# Altium integrated library Microchip Power Management Battery Management.IntLib: 224 symbols (part 2 of 7)
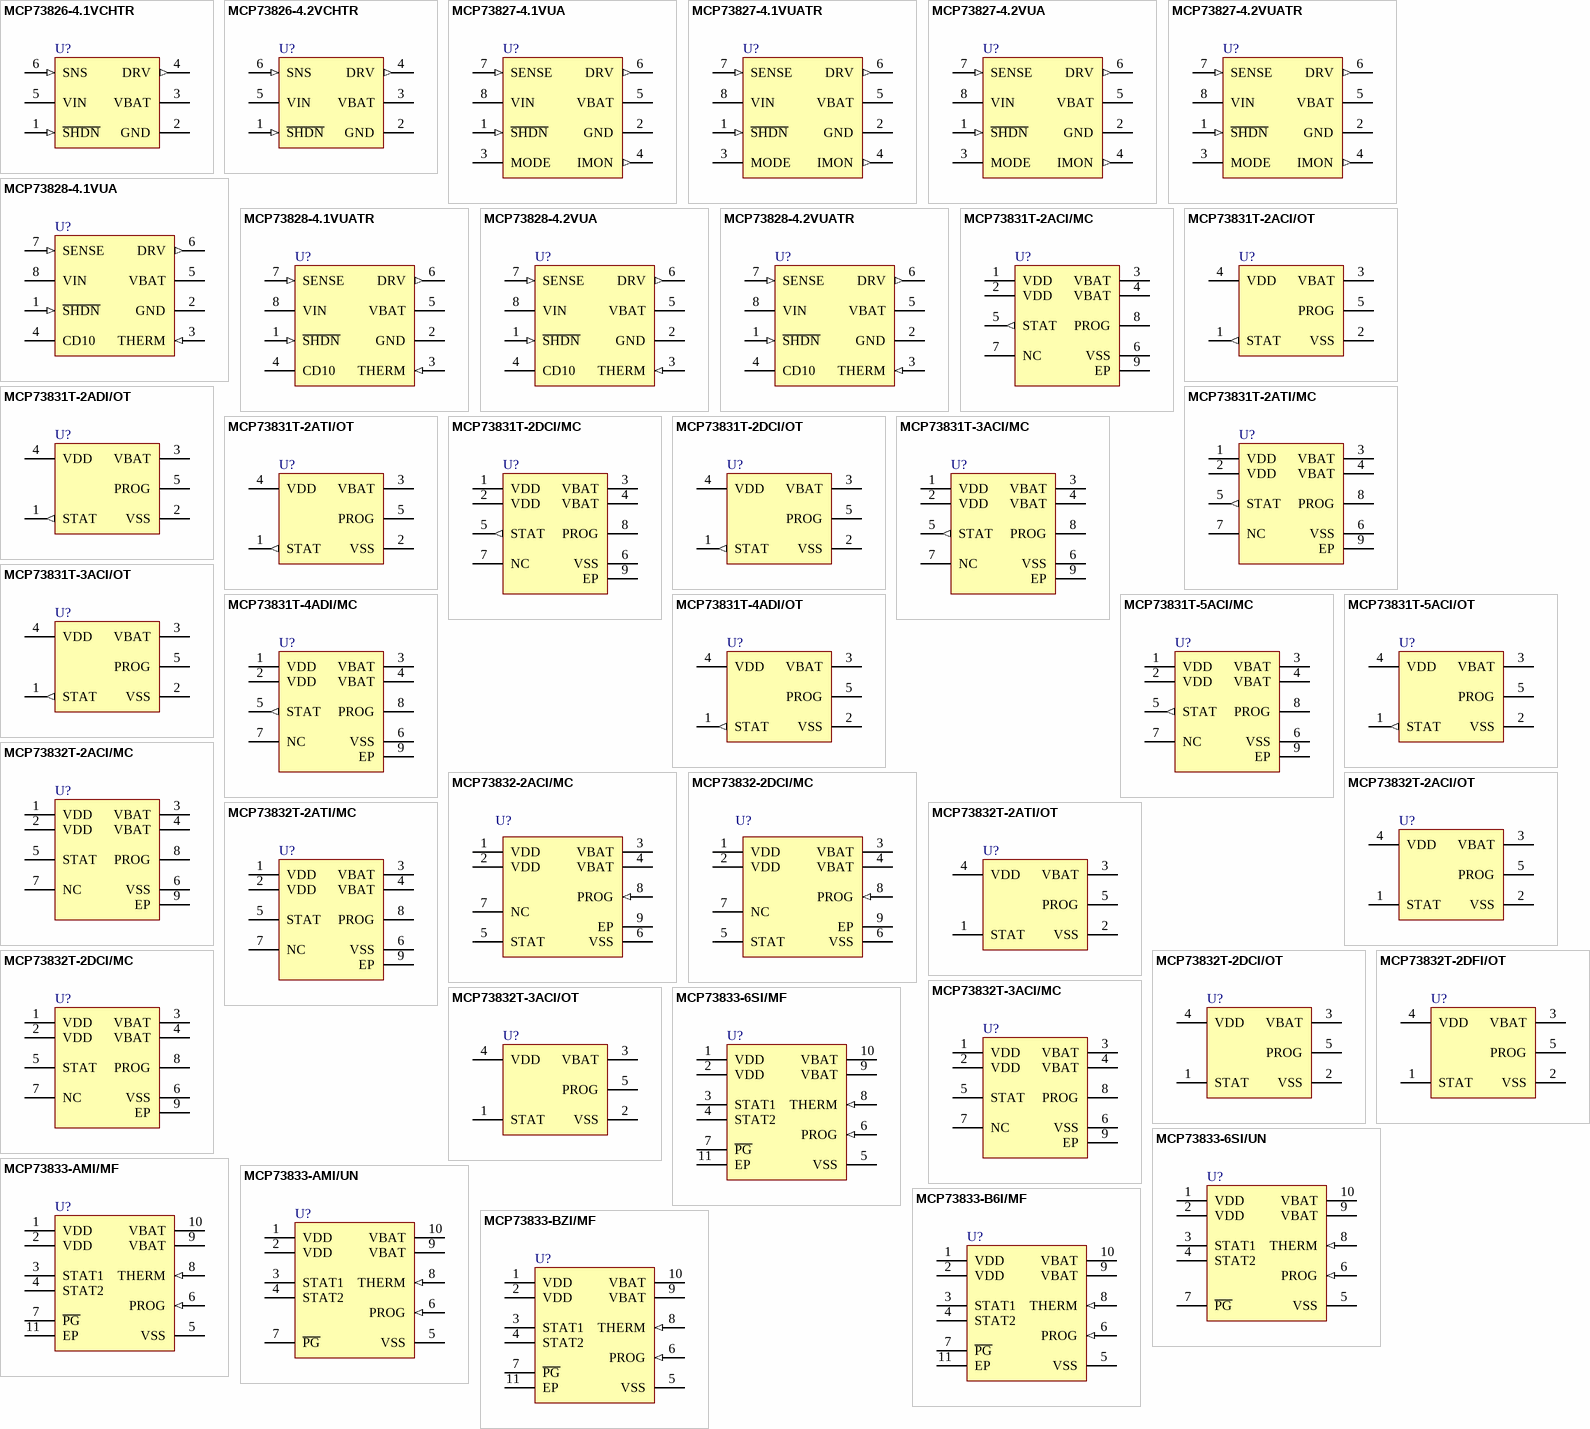
[diagram p7: symbols MCP73826-4.1VCHTR to MCP73833-BZI/MF]

## MCP73826-4.2VCHTR
designator U?
Single Cell Li-Ion Charge Management Controller, 4.2V, 6-Pin SOT-23, Industrial Temperature, Tape and Reel; Manufacturer: Microchip; PartNumber: MCP73826-4.2VCHTR; DatasheetVersion: revA, Feb-2003; PackageVersion: revBB, Aug-2009; PackageReference: SOT-23-CH6; PackageDescription: 6-Lead Plastic Small Outline Transistor (CH) [SOT-23]; Supplier 1: Digi-Key; Supplier Part Number 1: MCP73826-4.2VCHTR-ND; Supplier 2: Digi-Key; Supplier Part Number 2: MCP73826-4.2VCHCT-ND; Supplier 3: Digi-Key; Supplier Part Number 3: MCP73826-4.2VCHDKR-ND; Supplier 4: Farnell; Supplier Part Number 4: 1084313; Supplier 5: Farnell; Supplier Part Number 5: 1084313RL; Supplier 6: Newark; Supplier Part Number 6: 97K4498; Supplier 7: Mouser; Supplier Part Number 7: 579-MCP738264.2VCHTR; Mounting Technology: Surface Mount; Code_IPC: SOT26A-6; ComponentLink1Description: Manufacturer URL; ComponentLink1URL: http://www.microchip.com/; ComponentLink2Description: Datasheet; ComponentLink2URL: http://ww1.microchip.com/downloads/en/DeviceDoc/21705a.pdf; ComponentLink3Description: Package Specification; ComponentLink3URL: http://www.microchip.com/stellent/groups/techpub_sg/documents/packagingspec/en012702.pdf
footprint SOT-23-CH6_N (SOT23, 6-Leads, Body 2.9x1.6mm, Pitch 0.95mm, Lead Span 2.7mm, IPC Medium Density)
footprint SOT-23-CH6_L (SOT23, 6-Leads, Body 2.9x1.6mm, Pitch 0.95mm, Lead Span 2.7mm, IPC High Density)
footprint SOT-23-CH6_M (SOT23, 6-Leads, Body 2.9x1.6mm, Pitch 0.95mm, Lead Span 2.7mm, IPC Low Density)
pins: 1 ~{SHDN} (in), 2 GND (power), 3 VBAT (power), 4 DRV (out), 5 VIN (power), 6 SNS (in)

## MCP73827-4.1VUA
designator U?
Single Cell Li-Ion Charge Management Controller with Mode Indicator & Charge Current Monitor, 4.1V, 8-Pin MSOP, Industrial Temperature; Manufacturer: Microchip; PartNumber: MCP73827-4.1VUA; DatasheetVersion: revB, Feb-2007; PackageVersion: revBB, Aug-2009; PackageReference: MSOP-UA8; PackageDescription: 8-Lead Plastic Micro Small Outline Package (UA) [MSOP]; Supplier 1: Digi-Key; Supplier Part Number 1: MCP73827-4.1VUA-ND; Supplier 2: Mouser; Supplier Part Number 2: 579-MCP73827-4.1VUA; Mounting Technology: Surface Mount; Code_JEDEC: MO-187-AA; ComponentLink1Description: Manufacturer URL; ComponentLink1URL: http://www.microchip.com/; ComponentLink2Description: Datasheet; ComponentLink2URL: http://ww1.microchip.com/downloads/en/DeviceDoc/21704B.pdf; ComponentLink3Description: Package Specification; ComponentLink3URL: http://www.microchip.com/stellent/groups/techpub_sg/documents/packagingspec/en012702.pdf
footprint MSOP-UA8_N (TSOP, 8-Leads, Body 3x3mm, Pitch 0.65mm, IPC Medium Density)
footprint MSOP-UA8_L (TSOP, 8-Leads, Body 3x3mm, Pitch 0.65mm, IPC High Density)
footprint MSOP-UA8_M (TSOP, 8-Leads, Body 3x3mm, Pitch 0.65mm, IPC Low Density)
pins: 1 ~{SHDN} (in), 2 GND (power), 3 MODE (oc), 4 IMON (out), 5 VBAT (power), 6 DRV (out), 7 SENSE (in), 8 VIN (power)

## MCP73827-4.1VUATR
designator U?
Single Cell Li-Ion Charge Management Controller with Mode Indicator & Charge Current Monitor, 4.1V, 8-Pin MSOP, Industrial Temperature, Tape and Reel; Manufacturer: Microchip; PartNumber: MCP73827-4.1VUATR; DatasheetVersion: revB, Feb-2007; PackageVersion: revBB, Aug-2009; PackageReference: MSOP-UA8; PackageDescription: 8-Lead Plastic Micro Small Outline Package (UA) [MSOP]; Supplier 1: Digi-Key; Supplier Part Number 1: MCP73827-4.1VUATR-ND; Supplier 2: Mouser; Supplier Part Number 2: 579-MCP738274.1VUATR; Mounting Technology: Surface Mount; Code_JEDEC: MO-187-AA; ComponentLink1Description: Manufacturer URL; ComponentLink1URL: http://www.microchip.com/; ComponentLink2Description: Datasheet; ComponentLink2URL: http://ww1.microchip.com/downloads/en/DeviceDoc/21704B.pdf; ComponentLink3Description: Package Specification; ComponentLink3URL: http://www.microchip.com/stellent/groups/techpub_sg/documents/packagingspec/en012702.pdf
footprint MSOP-UA8_N (TSOP, 8-Leads, Body 3x3mm, Pitch 0.65mm, IPC Medium Density)
footprint MSOP-UA8_L (TSOP, 8-Leads, Body 3x3mm, Pitch 0.65mm, IPC High Density)
footprint MSOP-UA8_M (TSOP, 8-Leads, Body 3x3mm, Pitch 0.65mm, IPC Low Density)
pins: 1 ~{SHDN} (in), 2 GND (power), 3 MODE (oc), 4 IMON (out), 5 VBAT (power), 6 DRV (out), 7 SENSE (in), 8 VIN (power)

## MCP73827-4.2VUA
designator U?
Single Cell Li-Ion Charge Management Controller with Mode Indicator & Charge Current Monitor, 4.2V, 8-Pin MSOP, Industrial Temperature; Manufacturer: Microchip; PartNumber: MCP73827-4.2VUA; DatasheetVersion: revB, Feb-2007; PackageVersion: revBB, Aug-2009; PackageReference: MSOP-UA8; PackageDescription: 8-Lead Plastic Micro Small Outline Package (UA) [MSOP]; Supplier 1: Digi-Key; Supplier Part Number 1: MCP73827-4.2VUA-ND; Supplier 2: Farnell; Supplier Part Number 2: 1852161; Supplier 3: Newark; Supplier Part Number 3: 72C4281; Supplier 4: Mouser; Supplier Part Number 4: 579-MCP73827-4.2VUA; Mounting Technology: Surface Mount; Code_JEDEC: MO-187-AA; ComponentLink1Description: Manufacturer URL; ComponentLink1URL: http://www.microchip.com/; ComponentLink2Description: Datasheet; ComponentLink2URL: http://ww1.microchip.com/downloads/en/DeviceDoc/21704B.pdf; ComponentLink3Description: Package Specification; ComponentLink3URL: http://www.microchip.com/stellent/groups/techpub_sg/documents/packagingspec/en012702.pdf
footprint MSOP-UA8_N (TSOP, 8-Leads, Body 3x3mm, Pitch 0.65mm, IPC Medium Density)
footprint MSOP-UA8_L (TSOP, 8-Leads, Body 3x3mm, Pitch 0.65mm, IPC High Density)
footprint MSOP-UA8_M (TSOP, 8-Leads, Body 3x3mm, Pitch 0.65mm, IPC Low Density)
pins: 1 ~{SHDN} (in), 2 GND (power), 3 MODE (oc), 4 IMON (out), 5 VBAT (power), 6 DRV (out), 7 SENSE (in), 8 VIN (power)

## MCP73827-4.2VUATR
designator U?
Single Cell Li-Ion Charge Management Controller with Mode Indicator & Charge Current Monitor, 4.2V, 8-Pin MSOP, Industrial Temperature, Tape and Reel; Manufacturer: Microchip; PartNumber: MCP73827-4.2VUATR; DatasheetVersion: revB, Feb-2007; PackageVersion: revBB, Aug-2009; PackageReference: MSOP-UA8; PackageDescription: 8-Lead Plastic Micro Small Outline Package (UA) [MSOP]; Supplier 1: Digi-Key; Supplier Part Number 1: MCP73827-4.2VUATR-ND; Supplier 2: Mouser; Supplier Part Number 2: 579-MCP738274.2VUATR; Mounting Technology: Surface Mount; Code_JEDEC: MO-187-AA; ComponentLink1Description: Manufacturer URL; ComponentLink1URL: http://www.microchip.com/; ComponentLink2Description: Datasheet; ComponentLink2URL: http://ww1.microchip.com/downloads/en/DeviceDoc/21704B.pdf; ComponentLink3Description: Package Specification; ComponentLink3URL: http://www.microchip.com/stellent/groups/techpub_sg/documents/packagingspec/en012702.pdf
footprint MSOP-UA8_N (TSOP, 8-Leads, Body 3x3mm, Pitch 0.65mm, IPC Medium Density)
footprint MSOP-UA8_L (TSOP, 8-Leads, Body 3x3mm, Pitch 0.65mm, IPC High Density)
footprint MSOP-UA8_M (TSOP, 8-Leads, Body 3x3mm, Pitch 0.65mm, IPC Low Density)
pins: 1 ~{SHDN} (in), 2 GND (power), 3 MODE (oc), 4 IMON (out), 5 VBAT (power), 6 DRV (out), 7 SENSE (in), 8 VIN (power)

## MCP73828-4.1VUA
designator U?
Single Cell Li-Ion Charge Management Controller with Charge Indicator & Temperature Monitor, 4.1V, 8-Pin MSOP, Industrial Temperature; Manufacturer: Microchip; PartNumber: MCP73828-4.1VUA; DatasheetVersion: revA, Mar-2002; PackageVersion: revBB, Aug-2009; PackageReference: MSOP-UA8; PackageDescription: 8-Lead Plastic Micro Small Outline Package (UA) [MSOP]; Supplier 1: Digi-Key; Supplier Part Number 1: MCP73828-4.1VUA-ND; Supplier 2: Mouser; Supplier Part Number 2: 579-MCP73828-4.1VUA; Mounting Technology: Surface Mount; Code_JEDEC: MO-187-AA; ComponentLink1Description: Manufacturer URL; ComponentLink1URL: http://www.microchip.com/; ComponentLink2Description: Datasheet; ComponentLink2URL: http://ww1.microchip.com/downloads/en/DeviceDoc/21706a_en.pdf; ComponentLink3Description: Package Specification; ComponentLink3URL: http://www.microchip.com/stellent/groups/techpub_sg/documents/packagingspec/en012702.pdf
footprint MSOP-UA8_N (TSOP, 8-Leads, Body 3x3mm, Pitch 0.65mm, IPC Medium Density)
footprint MSOP-UA8_L (TSOP, 8-Leads, Body 3x3mm, Pitch 0.65mm, IPC High Density)
footprint MSOP-UA8_M (TSOP, 8-Leads, Body 3x3mm, Pitch 0.65mm, IPC Low Density)
pins: 1 ~{SHDN} (in), 2 GND (power), 3 THERM (in), 4 CD10 (oc), 5 VBAT (power), 6 DRV (out), 7 SENSE (in), 8 VIN (power)

## MCP73828-4.1VUATR
designator U?
Single Cell Li-Ion Charge Management Controller with Charge Indicator & Temperature Monitor, 4.1V, 8-Pin MSOP, Industrial Temperature, Tape and Reel; Manufacturer: Microchip; PartNumber: MCP73828-4.1VUATR; DatasheetVersion: revA, Mar-2002; PackageVersion: revBB, Aug-2009; PackageReference: MSOP-UA8; PackageDescription: 8-Lead Plastic Micro Small Outline Package (UA) [MSOP]; Supplier 1: Digi-Key; Supplier Part Number 1: MCP73828-4.1VUATR-ND; Supplier 2: Mouser; Supplier Part Number 2: 579-MCP738284.1VUATR; Mounting Technology: Surface Mount; Code_JEDEC: MO-187-AA; ComponentLink1Description: Manufacturer URL; ComponentLink1URL: http://www.microchip.com/; ComponentLink2Description: Datasheet; ComponentLink2URL: http://ww1.microchip.com/downloads/en/DeviceDoc/21706a_en.pdf; ComponentLink3Description: Package Specification; ComponentLink3URL: http://www.microchip.com/stellent/groups/techpub_sg/documents/packagingspec/en012702.pdf
footprint MSOP-UA8_N (TSOP, 8-Leads, Body 3x3mm, Pitch 0.65mm, IPC Medium Density)
footprint MSOP-UA8_L (TSOP, 8-Leads, Body 3x3mm, Pitch 0.65mm, IPC High Density)
footprint MSOP-UA8_M (TSOP, 8-Leads, Body 3x3mm, Pitch 0.65mm, IPC Low Density)
pins: 1 ~{SHDN} (in), 2 GND (power), 3 THERM (in), 4 CD10 (oc), 5 VBAT (power), 6 DRV (out), 7 SENSE (in), 8 VIN (power)

## MCP73828-4.2VUA
designator U?
Single Cell Li-Ion Charge Management Controller with Charge Indicator & Temperature Monitor, 4.2V, 8-Pin MSOP, Industrial Temperature; Manufacturer: Microchip; PartNumber: MCP73828-4.2VUA; DatasheetVersion: revA, Mar-2002; PackageVersion: revBB, Aug-2009; PackageReference: MSOP-UA8; PackageDescription: 8-Lead Plastic Micro Small Outline Package (UA) [MSOP]; Supplier 1: Digi-Key; Supplier Part Number 1: MCP73828-4.2VUA-ND; Supplier 2: Mouser; Supplier Part Number 2: 579-MCP73828-4.2VUA; Mounting Technology: Surface Mount; Code_JEDEC: MO-187-AA; ComponentLink1Description: Manufacturer URL; ComponentLink1URL: http://www.microchip.com/; ComponentLink2Description: Datasheet; ComponentLink2URL: http://ww1.microchip.com/downloads/en/DeviceDoc/21706a_en.pdf; ComponentLink3Description: Package Specification; ComponentLink3URL: http://www.microchip.com/stellent/groups/techpub_sg/documents/packagingspec/en012702.pdf
footprint MSOP-UA8_N (TSOP, 8-Leads, Body 3x3mm, Pitch 0.65mm, IPC Medium Density)
footprint MSOP-UA8_L (TSOP, 8-Leads, Body 3x3mm, Pitch 0.65mm, IPC High Density)
footprint MSOP-UA8_M (TSOP, 8-Leads, Body 3x3mm, Pitch 0.65mm, IPC Low Density)
pins: 1 ~{SHDN} (in), 2 GND (power), 3 THERM (in), 4 CD10 (oc), 5 VBAT (power), 6 DRV (out), 7 SENSE (in), 8 VIN (power)

## MCP73828-4.2VUATR
designator U?
Single Cell Li-Ion Charge Management Controller with Charge Indicator & Temperature Monitor, 4.2V, 8-Pin MSOP, Industrial Temperature, Tape and Reel; Manufacturer: Microchip; PartNumber: MCP73828-4.2VUATR; DatasheetVersion: revA, Mar-2002; PackageVersion: revBB, Aug-2009; PackageReference: MSOP-UA8; PackageDescription: 8-Lead Plastic Micro Small Outline Package (UA) [MSOP]; Supplier 1: Digi-Key; Supplier Part Number 1: MCP73828-4.2VUATR-ND; Supplier 2: Mouser; Supplier Part Number 2: 579-MCP738284.2VUATR; Mounting Technology: Surface Mount; Code_JEDEC: MO-187-AA; ComponentLink1Description: Manufacturer URL; ComponentLink1URL: http://www.microchip.com/; ComponentLink2Description: Datasheet; ComponentLink2URL: http://ww1.microchip.com/downloads/en/DeviceDoc/21706a_en.pdf; ComponentLink3Description: Package Specification; ComponentLink3URL: http://www.microchip.com/stellent/groups/techpub_sg/documents/packagingspec/en012702.pdf
footprint MSOP-UA8_N (TSOP, 8-Leads, Body 3x3mm, Pitch 0.65mm, IPC Medium Density)
footprint MSOP-UA8_L (TSOP, 8-Leads, Body 3x3mm, Pitch 0.65mm, IPC High Density)
footprint MSOP-UA8_M (TSOP, 8-Leads, Body 3x3mm, Pitch 0.65mm, IPC Low Density)
pins: 1 ~{SHDN} (in), 2 GND (power), 3 THERM (in), 4 CD10 (oc), 5 VBAT (power), 6 DRV (out), 7 SENSE (in), 8 VIN (power)

## MCP73831T-2ACI/MC
designator U?
Miniature Single-Cell, Fully Integrated Li-Ion, Li-Polymer Charge Management Controller, 4.2V, 8-Pin DFN, Industrial Temperature, Tape and Reel; Manufacturer: Microchip; PartNumber: MCP73831T-2ACI/MC; DatasheetVersion: revE, Sep-2008; PackageVersion: revBB, Aug-2009; PackageReference: DFN-MC8; PackageDescription: 8-Lead Plastic Dual Flat, No Lead Package (MC) - 2x3x0.9mm Body [DFN]; Supplier 1: Digi-Key; Supplier Part Number 1: MCP73831T-2ACI/MC-ND; Supplier 2: Mouser; Supplier Part Number 2: 579-MCP73831T-2ACIMC; Mounting Technology: Surface Mount; ComponentLink1Description: Manufacturer URL; ComponentLink1URL: http://www.microchip.com/; ComponentLink2Description: Datasheet; ComponentLink2URL: http://ww1.microchip.com/downloads/en/DeviceDoc/21984e.pdf; ComponentLink3Description: Package Specification; ComponentLink3URL: http://www.microchip.com/stellent/groups/techpub_sg/documents/packagingspec/en012702.pdf
footprint DFN-MC8 (SON, 8-Leads, Body 2x3mm, Pitch 0.5mm, Microchip Recommended)
pins: 1 VDD (power), 2 VDD (power), 3 VBAT (power), 4 VBAT (power), 5 STAT (out), 6 VSS (power), 7 NC, 8 PROG, 9 EP (power)

## MCP73831T-2ACI/OT
designator U?
Miniature Single-Cell, Fully Integrated Li-Ion, Li-Polymer Charge Management Controller, 4.2V, 5-Pin SOT-23, Industrial Temperature, Tape and Reel; Manufacturer: Microchip; PartNumber: MCP73831T-2ACI/OT; DatasheetVersion: revE, Sep-2008; PackageVersion: revBB, Aug-2009; PackageReference: SOT-23-OT5; PackageDescription: 5-Lead Plastic Small Outline Transistor (OT) [SOT-23]; Supplier 1: Digi-Key; Supplier Part Number 1: MCP73831T-2ACI/OTTR-ND; Supplier 2: Digi-Key; Supplier Part Number 2: MCP73831T-2ACI/OTCT-ND; Supplier 3: Digi-Key; Supplier Part Number 3: MCP73831T-2ACI/OTDKR-ND; Supplier 4: Farnell; Supplier Part Number 4: 1332158; Supplier 5: Farnell; Supplier Part Number 5: 1332158RL; Supplier 6: Newark; Supplier Part Number 6: 56K7045; Supplier 7: Mouser; Supplier Part Number 7: 579-MCP73831T-2ACIOT; Mounting Technology: Surface Mount; Code_IPC: SOT23-5; ComponentLink1Description: Manufacturer URL; ComponentLink1URL: http://www.microchip.com/; ComponentLink2Description: Datasheet; ComponentLink2URL: http://ww1.microchip.com/downloads/en/DeviceDoc/21984e.pdf; ComponentLink3Description: Package Specification; ComponentLink3URL: http://www.microchip.com/stellent/groups/techpub_sg/documents/packagingspec/en012702.pdf
footprint SOT-23-OT5_N (SOT23, 5-Leads, Body 2.9x1.6mm, Pitch 0.95mm, Lead Span 2.7mm, IPC Medium Density)
footprint SOT-23-OT5_L (SOT23, 5-Leads, Body 2.9x1.6mm, Pitch 0.95mm, Lead Span 2.7mm, IPC High Density)
footprint SOT-23-OT5_M (SOT23, 5-Leads, Body 2.9x1.6mm, Pitch 0.95mm, Lead Span 2.7mm, IPC Low Density)
pins: 1 STAT (out), 2 VSS (power), 3 VBAT (power), 4 VDD (power), 5 PROG

## MCP73831T-2ADI/OT
designator U?
Miniature Single-Cell, Fully Integrated Li-Ion, Li-Polymer Charge Management Controller, 4.2V, 5-Pin SOT-23, Industrial Temperature, Tape and Reel; Manufacturer: Microchip; PartNumber: MCP73831T-2ADI/OT; DatasheetVersion: revE, Sep-2008; PackageVersion: revBB, Aug-2009; PackageReference: SOT-23-OT5; PackageDescription: 5-Lead Plastic Small Outline Transistor (OT) [SOT-23]; Mounting Technology: Surface Mount; Code_IPC: SOT23-5; ComponentLink1Description: Manufacturer URL; ComponentLink1URL: http://www.microchip.com/; ComponentLink2Description: Datasheet; ComponentLink2URL: http://ww1.microchip.com/downloads/en/DeviceDoc/21984e.pdf; ComponentLink3Description: Package Specification; ComponentLink3URL: http://www.microchip.com/stellent/groups/techpub_sg/documents/packagingspec/en012702.pdf
footprint SOT-23-OT5_N (SOT23, 5-Leads, Body 2.9x1.6mm, Pitch 0.95mm, Lead Span 2.7mm, IPC Medium Density)
footprint SOT-23-OT5_L (SOT23, 5-Leads, Body 2.9x1.6mm, Pitch 0.95mm, Lead Span 2.7mm, IPC High Density)
footprint SOT-23-OT5_M (SOT23, 5-Leads, Body 2.9x1.6mm, Pitch 0.95mm, Lead Span 2.7mm, IPC Low Density)
pins: 1 STAT (out), 2 VSS (power), 3 VBAT (power), 4 VDD (power), 5 PROG

## MCP73831T-2ATI/MC
designator U?
Miniature Single-Cell, Fully Integrated Li-Ion, Li-Polymer Charge Management Controller, 4.2V, 8-Pin DFN, Industrial Temperature, Tape and Reel; Manufacturer: Microchip; PartNumber: MCP73831T-2ATI/MC; DatasheetVersion: revE, Sep-2008; PackageVersion: revBB, Aug-2009; PackageReference: DFN-MC8; PackageDescription: 8-Lead Plastic Dual Flat, No Lead Package (MC) - 2x3x0.9mm Body [DFN]; Supplier 1: Digi-Key; Supplier Part Number 1: MCP73831T-2ATI/MC-ND; Supplier 2: Mouser; Supplier Part Number 2: 579-MCP73831T-2ATIMC; Mounting Technology: Surface Mount; ComponentLink1Description: Manufacturer URL; ComponentLink1URL: http://www.microchip.com/; ComponentLink2Description: Datasheet; ComponentLink2URL: http://ww1.microchip.com/downloads/en/DeviceDoc/21984e.pdf; ComponentLink3Description: Package Specification; ComponentLink3URL: http://www.microchip.com/stellent/groups/techpub_sg/documents/packagingspec/en012702.pdf
footprint DFN-MC8 (SON, 8-Leads, Body 2x3mm, Pitch 0.5mm, Microchip Recommended)
pins: 1 VDD (power), 2 VDD (power), 3 VBAT (power), 4 VBAT (power), 5 STAT (out), 6 VSS (power), 7 NC, 8 PROG, 9 EP (power)

## MCP73831T-2ATI/OT
designator U?
Miniature Single-Cell, Fully Integrated Li-Ion, Li-Polymer Charge Management Controller, 4.2V, 5-Pin SOT-23, Industrial Temperature, Tape and Reel; Manufacturer: Microchip; PartNumber: MCP73831T-2ATI/OT; DatasheetVersion: revE, Sep-2008; PackageVersion: revBB, Aug-2009; PackageReference: SOT-23-OT5; PackageDescription: 5-Lead Plastic Small Outline Transistor (OT) [SOT-23]; Supplier 1: Digi-Key; Supplier Part Number 1: MCP73831T-2ATI/OTTR-ND; Supplier 2: Digi-Key; Supplier Part Number 2: MCP73831T-2ATI/OTCT-ND; Supplier 3: Digi-Key; Supplier Part Number 3: MCP73831T-2ATI/OTDKR-ND; Supplier 4: Farnell; Supplier Part Number 4: 1834890RL; Supplier 5: Farnell; Supplier Part Number 5: 1834890; Supplier 6: Newark; Supplier Part Number 6: 84R5196; Supplier 7: Mouser; Supplier Part Number 7: 579-MCP73831T-2ATIOT; Mounting Technology: Surface Mount; Code_IPC: SOT23-5; ComponentLink1Description: Manufacturer URL; ComponentLink1URL: http://www.microchip.com/; ComponentLink2Description: Datasheet; ComponentLink2URL: http://ww1.microchip.com/downloads/en/DeviceDoc/21984e.pdf; ComponentLink3Description: Package Specification; ComponentLink3URL: http://www.microchip.com/stellent/groups/techpub_sg/documents/packagingspec/en012702.pdf
footprint SOT-23-OT5_N (SOT23, 5-Leads, Body 2.9x1.6mm, Pitch 0.95mm, Lead Span 2.7mm, IPC Medium Density)
footprint SOT-23-OT5_L (SOT23, 5-Leads, Body 2.9x1.6mm, Pitch 0.95mm, Lead Span 2.7mm, IPC High Density)
footprint SOT-23-OT5_M (SOT23, 5-Leads, Body 2.9x1.6mm, Pitch 0.95mm, Lead Span 2.7mm, IPC Low Density)
pins: 1 STAT (out), 2 VSS (power), 3 VBAT (power), 4 VDD (power), 5 PROG

## MCP73831T-2DCI/MC
designator U?
Miniature Single-Cell, Fully Integrated Li-Ion, Li-Polymer Charge Management Controller, 4.2V, 8-Pin DFN, Industrial Temperature, Tape and Reel; Manufacturer: Microchip; PartNumber: MCP73831T-2DCI/MC; DatasheetVersion: revE, Sep-2008; PackageVersion: revBB, Aug-2009; PackageReference: DFN-MC8; PackageDescription: 8-Lead Plastic Dual Flat, No Lead Package (MC) - 2x3x0.9mm Body [DFN]; Supplier 1: Digi-Key; Supplier Part Number 1: MCP73831T-2DCI/MC-ND; Supplier 2: Mouser; Supplier Part Number 2: 579-MCP73831T-2DCIMC; Mounting Technology: Surface Mount; ComponentLink1Description: Manufacturer URL; ComponentLink1URL: http://www.microchip.com/; ComponentLink2Description: Datasheet; ComponentLink2URL: http://ww1.microchip.com/downloads/en/DeviceDoc/21984e.pdf; ComponentLink3Description: Package Specification; ComponentLink3URL: http://www.microchip.com/stellent/groups/techpub_sg/documents/packagingspec/en012702.pdf
footprint DFN-MC8 (SON, 8-Leads, Body 2x3mm, Pitch 0.5mm, Microchip Recommended)
pins: 1 VDD (power), 2 VDD (power), 3 VBAT (power), 4 VBAT (power), 5 STAT (out), 6 VSS (power), 7 NC, 8 PROG, 9 EP (power)

## MCP73831T-2DCI/OT
designator U?
Miniature Single-Cell, Fully Integrated Li-Ion, Li-Polymer Charge Management Controller, 4.2V, 5-Pin SOT-23, Industrial Temperature, Tape and Reel; Manufacturer: Microchip; PartNumber: MCP73831T-2DCI/OT; DatasheetVersion: revE, Sep-2008; PackageVersion: revBB, Aug-2009; PackageReference: SOT-23-OT5; PackageDescription: 5-Lead Plastic Small Outline Transistor (OT) [SOT-23]; Supplier 1: Digi-Key; Supplier Part Number 1: MCP73831T-2DCI/OTTR-ND; Supplier 2: Digi-Key; Supplier Part Number 2: MCP73831T-2DCI/OTCT-ND; Supplier 3: Digi-Key; Supplier Part Number 3: MCP73831T-2DCI/OTDKR-ND; Supplier 4: Farnell; Supplier Part Number 4: 1840935; Supplier 5: Newark; Supplier Part Number 5: 84R6271; Supplier 6: Mouser; Supplier Part Number 6: 579-MCP73831T-2DCIOT; Mounting Technology: Surface Mount; Code_IPC: SOT23-5; ComponentLink1Description: Manufacturer URL; ComponentLink1URL: http://www.microchip.com/; ComponentLink2Description: Datasheet; ComponentLink2URL: http://ww1.microchip.com/downloads/en/DeviceDoc/21984e.pdf; ComponentLink3Description: Package Specification; ComponentLink3URL: http://www.microchip.com/stellent/groups/techpub_sg/documents/packagingspec/en012702.pdf
footprint SOT-23-OT5_N (SOT23, 5-Leads, Body 2.9x1.6mm, Pitch 0.95mm, Lead Span 2.7mm, IPC Medium Density)
footprint SOT-23-OT5_L (SOT23, 5-Leads, Body 2.9x1.6mm, Pitch 0.95mm, Lead Span 2.7mm, IPC High Density)
footprint SOT-23-OT5_M (SOT23, 5-Leads, Body 2.9x1.6mm, Pitch 0.95mm, Lead Span 2.7mm, IPC Low Density)
pins: 1 STAT (out), 2 VSS (power), 3 VBAT (power), 4 VDD (power), 5 PROG

## MCP73831T-3ACI/MC
designator U?
Miniature Single-Cell, Fully Integrated Li-Ion, Li-Polymer Charge Management Controller, 4.35V, 8-Pin DFN, Industrial Temperature, Tape and Reel; Manufacturer: Microchip; PartNumber: MCP73831T-3ACI/MC; DatasheetVersion: revE, Sep-2008; PackageVersion: revBB, Aug-2009; PackageReference: DFN-MC8; PackageDescription: 8-Lead Plastic Dual Flat, No Lead Package (MC) - 2x3x0.9mm Body [DFN]; Supplier 1: Digi-Key; Supplier Part Number 1: MCP73831T-3ACI/MC-ND; Supplier 2: Mouser; Supplier Part Number 2: 579-MCP73831T-3ACIMC; Mounting Technology: Surface Mount; ComponentLink1Description: Manufacturer URL; ComponentLink1URL: http://www.microchip.com/; ComponentLink2Description: Datasheet; ComponentLink2URL: http://ww1.microchip.com/downloads/en/DeviceDoc/21984e.pdf; ComponentLink3Description: Package Specification; ComponentLink3URL: http://www.microchip.com/stellent/groups/techpub_sg/documents/packagingspec/en012702.pdf
footprint DFN-MC8 (SON, 8-Leads, Body 2x3mm, Pitch 0.5mm, Microchip Recommended)
pins: 1 VDD (power), 2 VDD (power), 3 VBAT (power), 4 VBAT (power), 5 STAT (out), 6 VSS (power), 7 NC, 8 PROG, 9 EP (power)

## MCP73831T-3ACI/OT
designator U?
Miniature Single-Cell, Fully Integrated Li-Ion, Li-Polymer Charge Management Controller, 4.35V, 5-Pin SOT-23, Industrial Temperature, Tape and Reel; Manufacturer: Microchip; PartNumber: MCP73831T-3ACI/OT; DatasheetVersion: revE, Sep-2008; PackageVersion: revBB, Aug-2009; PackageReference: SOT-23-OT5; PackageDescription: 5-Lead Plastic Small Outline Transistor (OT) [SOT-23]; Supplier 1: Digi-Key; Supplier Part Number 1: MCP73831T-3ACI/OT-ND; Supplier 2: Mouser; Supplier Part Number 2: 579-MCP73831T-3ACIOT; Mounting Technology: Surface Mount; Code_IPC: SOT23-5; ComponentLink1Description: Manufacturer URL; ComponentLink1URL: http://www.microchip.com/; ComponentLink2Description: Datasheet; ComponentLink2URL: http://ww1.microchip.com/downloads/en/DeviceDoc/21984e.pdf; ComponentLink3Description: Package Specification; ComponentLink3URL: http://www.microchip.com/stellent/groups/techpub_sg/documents/packagingspec/en012702.pdf
footprint SOT-23-OT5_N (SOT23, 5-Leads, Body 2.9x1.6mm, Pitch 0.95mm, Lead Span 2.7mm, IPC Medium Density)
footprint SOT-23-OT5_L (SOT23, 5-Leads, Body 2.9x1.6mm, Pitch 0.95mm, Lead Span 2.7mm, IPC High Density)
footprint SOT-23-OT5_M (SOT23, 5-Leads, Body 2.9x1.6mm, Pitch 0.95mm, Lead Span 2.7mm, IPC Low Density)
pins: 1 STAT (out), 2 VSS (power), 3 VBAT (power), 4 VDD (power), 5 PROG

## MCP73831T-4ADI/MC
designator U?
Miniature Single-Cell, Fully Integrated Li-Ion, Li-Polymer Charge Management Controller, 4.4V, 8-Pin DFN, Industrial Temperature, Tape and Reel; Manufacturer: Microchip; PartNumber: MCP73831T-4ADI/MC; DatasheetVersion: revE, Sep-2008; PackageVersion: revBB, Aug-2009; PackageReference: DFN-MC8; PackageDescription: 8-Lead Plastic Dual Flat, No Lead Package (MC) - 2x3x0.9mm Body [DFN]; Supplier 1: Digi-Key; Supplier Part Number 1: MCP73831T-4ADI/MC-ND; Supplier 2: Mouser; Supplier Part Number 2: 579-MCP73831T4ADIMC; Mounting Technology: Surface Mount; ComponentLink1Description: Manufacturer URL; ComponentLink1URL: http://www.microchip.com/; ComponentLink2Description: Datasheet; ComponentLink2URL: http://ww1.microchip.com/downloads/en/DeviceDoc/21984e.pdf; ComponentLink3Description: Package Specification; ComponentLink3URL: http://www.microchip.com/stellent/groups/techpub_sg/documents/packagingspec/en012702.pdf
footprint DFN-MC8 (SON, 8-Leads, Body 2x3mm, Pitch 0.5mm, Microchip Recommended)
pins: 1 VDD (power), 2 VDD (power), 3 VBAT (power), 4 VBAT (power), 5 STAT (out), 6 VSS (power), 7 NC, 8 PROG, 9 EP (power)

## MCP73831T-4ADI/OT
designator U?
Miniature Single-Cell, Fully Integrated Li-Ion, Li-Polymer Charge Management Controller, 4.4V, 5-Pin SOT-23, Industrial Temperature, Tape and Reel; Manufacturer: Microchip; PartNumber: MCP73831T-4ADI/OT; DatasheetVersion: revE, Sep-2008; PackageVersion: revBB, Aug-2009; PackageReference: SOT-23-OT5; PackageDescription: 5-Lead Plastic Small Outline Transistor (OT) [SOT-23]; Supplier 1: Digi-Key; Supplier Part Number 1: MCP73831T-4ADI/OT-ND; Supplier 2: Mouser; Supplier Part Number 2: 579-MCP73831T4ADIOT; Mounting Technology: Surface Mount; Code_IPC: SOT23-5; ComponentLink1Description: Manufacturer URL; ComponentLink1URL: http://www.microchip.com/; ComponentLink2Description: Datasheet; ComponentLink2URL: http://ww1.microchip.com/downloads/en/DeviceDoc/21984e.pdf; ComponentLink3Description: Package Specification; ComponentLink3URL: http://www.microchip.com/stellent/groups/techpub_sg/documents/packagingspec/en012702.pdf
footprint SOT-23-OT5_N (SOT23, 5-Leads, Body 2.9x1.6mm, Pitch 0.95mm, Lead Span 2.7mm, IPC Medium Density)
footprint SOT-23-OT5_L (SOT23, 5-Leads, Body 2.9x1.6mm, Pitch 0.95mm, Lead Span 2.7mm, IPC High Density)
footprint SOT-23-OT5_M (SOT23, 5-Leads, Body 2.9x1.6mm, Pitch 0.95mm, Lead Span 2.7mm, IPC Low Density)
pins: 1 STAT (out), 2 VSS (power), 3 VBAT (power), 4 VDD (power), 5 PROG

## MCP73831T-5ACI/MC
designator U?
Miniature Single-Cell, Fully Integrated Li-Ion, Li-Polymer Charge Management Controller, 4.5V, 8-Pin DFN, Industrial Temperature, Tape and Reel; Manufacturer: Microchip; PartNumber: MCP73831T-5ACI/MC; DatasheetVersion: revE, Sep-2008; PackageVersion: revBB, Aug-2009; PackageReference: DFN-MC8; PackageDescription: 8-Lead Plastic Dual Flat, No Lead Package (MC) - 2x3x0.9mm Body [DFN]; Supplier 1: Digi-Key; Supplier Part Number 1: MCP73831T-5ACI/MC-ND; Supplier 2: Mouser; Supplier Part Number 2: 579-MCP73831T5ACIMC; Mounting Technology: Surface Mount; ComponentLink1Description: Manufacturer URL; ComponentLink1URL: http://www.microchip.com/; ComponentLink2Description: Datasheet; ComponentLink2URL: http://ww1.microchip.com/downloads/en/DeviceDoc/21984e.pdf; ComponentLink3Description: Package Specification; ComponentLink3URL: http://www.microchip.com/stellent/groups/techpub_sg/documents/packagingspec/en012702.pdf
footprint DFN-MC8 (SON, 8-Leads, Body 2x3mm, Pitch 0.5mm, Microchip Recommended)
pins: 1 VDD (power), 2 VDD (power), 3 VBAT (power), 4 VBAT (power), 5 STAT (out), 6 VSS (power), 7 NC, 8 PROG, 9 EP (power)

## MCP73831T-5ACI/OT
designator U?
Miniature Single-Cell, Fully Integrated Li-Ion, Li-Polymer Charge Management Controller, 4.5V, 5-Pin SOT-23, Industrial Temperature, Tape and Reel; Manufacturer: Microchip; PartNumber: MCP73831T-5ACI/OT; DatasheetVersion: revE, Sep-2008; PackageVersion: revBB, Aug-2009; PackageReference: SOT-23-OT5; PackageDescription: 5-Lead Plastic Small Outline Transistor (OT) [SOT-23]; Supplier 1: Digi-Key; Supplier Part Number 1: MCP73831T-5ACI/OT-ND; Supplier 2: Mouser; Supplier Part Number 2: 579-MCP73831T5ACIOT; Mounting Technology: Surface Mount; Code_IPC: SOT23-5; ComponentLink1Description: Manufacturer URL; ComponentLink1URL: http://www.microchip.com/; ComponentLink2Description: Datasheet; ComponentLink2URL: http://ww1.microchip.com/downloads/en/DeviceDoc/21984e.pdf; ComponentLink3Description: Package Specification; ComponentLink3URL: http://www.microchip.com/stellent/groups/techpub_sg/documents/packagingspec/en012702.pdf
footprint SOT-23-OT5_N (SOT23, 5-Leads, Body 2.9x1.6mm, Pitch 0.95mm, Lead Span 2.7mm, IPC Medium Density)
footprint SOT-23-OT5_L (SOT23, 5-Leads, Body 2.9x1.6mm, Pitch 0.95mm, Lead Span 2.7mm, IPC High Density)
footprint SOT-23-OT5_M (SOT23, 5-Leads, Body 2.9x1.6mm, Pitch 0.95mm, Lead Span 2.7mm, IPC Low Density)
pins: 1 STAT (out), 2 VSS (power), 3 VBAT (power), 4 VDD (power), 5 PROG

## MCP73832-2ACI/MC
designator U?
Miniature Single-Cell, Fully Integrated Li-Ion, Li-Polymer Charge Management Controller, 0.75% Voltage Regulation Accuracy, 3.75 to 6.0 V Vcc, -40 to 85 degC, 8-pin DFN (MC8), Tube; Manufacturer: Microchip; PartNumber: MCP73832-2ACI/MC; DatasheetVersion: Rev. E; PackageVersion: C04-123C; PackageReference: DFN-MC8; PackageDescription: 8-Lead Plastic Dual Flat, 2 x 3 mm Body, 0.5 mm Pitch; Supplier 1: Digi-Key; Supplier Part Number 1: MCP73832-2ACI/MC-ND; Supplier 2: Newark; Supplier Part Number 2: 77M3058; Supplier 3: Mouser; Supplier Part Number 3: 579-MCP73832-2ACI/MC; Mounting Technology: Surface Mount; ComponentLink1Description: Manufacturer URL; ComponentLink1URL: http://www.microchip.com; ComponentLink2Description: Datasheet; ComponentLink2URL: http://ww1.microchip.com/downloads/en/DeviceDoc/21984e.pdf; ComponentLink3Description: Package Specification; ComponentLink3URL: http://www.microchip.com/stellent/groups/techpub_sg/documents/packagingspec/en012702.pdf; ComponentLink4Description: Product URL; ComponentLink4URL: http://www.microchip.com/MCP73832
footprint MCHP-DFN-MC8_V (SON, 8-Leads, Body 3x2mm, Pitch 0.5mm, Thermal Pad 1.45x1.75mm)
pins: 1 VDD (power) "Battery Management Input Supply", 2 VDD (power) "Battery Management Input Supply", 3 VBAT (power) "Battery Charge Control Output", 4 VBAT (power) "Battery Charge Control Output", 5 STAT (hiz) "Charge Status Output", 6 VSS (power) "Battery Management 0V Reference", 7 NC "No Connection", 8 PROG (in) "Current Regulation Set and Charge Control Enable", 9 EP (power) "Exposed Thermal Pad (EP); must be connected to VSS."

## MCP73832-2DCI/MC
designator U?
Miniature Single-Cell, Fully Integrated Li-Ion, Li-Polymer Charge Management Controller, 0.75% Voltage Regulation Accuracy, 3.75 to 6.0 V Vcc, -40 to 85 degC, 8-pin DFN (MC8), Tube; Manufacturer: Microchip; PartNumber: MCP73832-2DCI/MC; DatasheetVersion: Rev. E; PackageVersion: C04-123C; PackageReference: DFN-MC8; PackageDescription: 8-Lead Plastic Dual Flat, 2 x 3 mm Body, 0.5 mm Pitch; Supplier 1: Digi-Key; Supplier Part Number 1: MCP73832-2DCI/MC-ND; Supplier 2: Mouser; Supplier Part Number 2: 579-MCP73832-2DCI/MC; Mounting Technology: Surface Mount; ComponentLink1Description: Manufacturer URL; ComponentLink1URL: http://www.microchip.com; ComponentLink2Description: Datasheet; ComponentLink2URL: http://ww1.microchip.com/downloads/en/DeviceDoc/21984e.pdf; ComponentLink3Description: Package Specification; ComponentLink3URL: http://www.microchip.com/stellent/groups/techpub_sg/documents/packagingspec/en012702.pdf; ComponentLink4Description: Product URL; ComponentLink4URL: http://www.microchip.com/MCP73832
footprint MCHP-DFN-MC8_V (SON, 8-Leads, Body 3x2mm, Pitch 0.5mm, Thermal Pad 1.45x1.75mm)
pins: 1 VDD (power) "Battery Management Input Supply", 2 VDD (power) "Battery Management Input Supply", 3 VBAT (power) "Battery Charge Control Output", 4 VBAT (power) "Battery Charge Control Output", 5 STAT (hiz) "Charge Status Output", 6 VSS (power) "Battery Management 0V Reference", 7 NC "No Connection", 8 PROG (in) "Current Regulation Set and Charge Control Enable", 9 EP (power) "Exposed Thermal Pad (EP); must be connected to VSS."

## MCP73832T-2ACI/MC
designator U?
Miniature Single-Cell, Fully Integrated Li-Ion, Li-Polymer Charge Management Controller, 4.2V, 8-Pin DFN, Industrial Temperature, Tape and Reel; Manufacturer: Microchip; PartNumber: MCP73832T-2ACI/MC; DatasheetVersion: revE, Sep-2008; PackageVersion: revBB, Aug-2009; PackageReference: DFN-MC8; PackageDescription: 8-Lead Plastic Dual Flat, No Lead Package (MC) - 2x3x0.9mm Body [DFN]; Supplier 1: Digi-Key; Supplier Part Number 1: MCP73832T-2ACI/MC-ND; Supplier 2: Newark; Supplier Part Number 2: 88K5655; Supplier 3: Mouser; Supplier Part Number 3: 579-MCP73832T-2ACIMC; Mounting Technology: Surface Mount; ComponentLink1Description: Manufacturer URL; ComponentLink1URL: http://www.microchip.com/; ComponentLink2Description: Datasheet; ComponentLink2URL: http://ww1.microchip.com/downloads/en/DeviceDoc/21984e.pdf; ComponentLink3Description: Package Specification; ComponentLink3URL: http://www.microchip.com/stellent/groups/techpub_sg/documents/packagingspec/en012702.pdf
footprint DFN-MC8 (SON, 8-Leads, Body 2x3mm, Pitch 0.5mm, Microchip Recommended)
pins: 1 VDD (power), 2 VDD (power), 3 VBAT (power), 4 VBAT (power), 5 STAT (oc), 6 VSS (power), 7 NC, 8 PROG, 9 EP (power)

## MCP73832T-2ACI/OT
designator U?
Miniature Single-Cell, Fully Integrated Li-Ion, Li-Polymer Charge Management Controller, 4.2V, 5-Pin SOT-23, Industrial Temperature, Tape and Reel; Manufacturer: Microchip; PartNumber: MCP73832T-2ACI/OT; DatasheetVersion: revE, Sep-2008; PackageVersion: revBB, Aug-2009; PackageReference: SOT-23-OT5; PackageDescription: 5-Lead Plastic Small Outline Transistor (OT) [SOT-23]; Supplier 1: Digi-Key; Supplier Part Number 1: MCP73832T-2ACI/OTTR-ND; Supplier 2: Digi-Key; Supplier Part Number 2: MCP73832T-2ACI/OTCT-ND; Supplier 3: Digi-Key; Supplier Part Number 3: MCP73832T-2ACI/OTDKR-ND; Supplier 4: Farnell; Supplier Part Number 4: 1332159RL; Supplier 5: Farnell; Supplier Part Number 5: 1332159; Supplier 6: Newark; Supplier Part Number 6: 88K5656; Supplier 7: Mouser; Supplier Part Number 7: 579-MCP73832T-2ACIOT; Mounting Technology: Surface Mount; Code_IPC: SOT23-5; ComponentLink1Description: Manufacturer URL; ComponentLink1URL: http://www.microchip.com/; ComponentLink2Description: Datasheet; ComponentLink2URL: http://ww1.microchip.com/downloads/en/DeviceDoc/21984e.pdf; ComponentLink3Description: Package Specification; ComponentLink3URL: http://www.microchip.com/stellent/groups/techpub_sg/documents/packagingspec/en012702.pdf
footprint SOT-23-OT5_N (SOT23, 5-Leads, Body 2.9x1.6mm, Pitch 0.95mm, Lead Span 2.7mm, IPC Medium Density)
footprint SOT-23-OT5_L (SOT23, 5-Leads, Body 2.9x1.6mm, Pitch 0.95mm, Lead Span 2.7mm, IPC High Density)
footprint SOT-23-OT5_M (SOT23, 5-Leads, Body 2.9x1.6mm, Pitch 0.95mm, Lead Span 2.7mm, IPC Low Density)
pins: 1 STAT (oc), 2 VSS (power), 3 VBAT (power), 4 VDD (power), 5 PROG

## MCP73832T-2ATI/MC
designator U?
Miniature Single-Cell, Fully Integrated Li-Ion, Li-Polymer Charge Management Controller, 4.2V, 8-Pin DFN, Industrial Temperature, Tape and Reel; Manufacturer: Microchip; PartNumber: MCP73832T-2ATI/MC; DatasheetVersion: revE, Sep-2008; PackageVersion: revBB, Aug-2009; PackageReference: DFN-MC8; PackageDescription: 8-Lead Plastic Dual Flat, No Lead Package (MC) - 2x3x0.9mm Body [DFN]; Supplier 1: Digi-Key; Supplier Part Number 1: MCP73832T-2ATI/MC-ND; Supplier 2: Mouser; Supplier Part Number 2: 579-MCP73832T-2ATIMC; Mounting Technology: Surface Mount; ComponentLink1Description: Manufacturer URL; ComponentLink1URL: http://www.microchip.com/; ComponentLink2Description: Datasheet; ComponentLink2URL: http://ww1.microchip.com/downloads/en/DeviceDoc/21984e.pdf; ComponentLink3Description: Package Specification; ComponentLink3URL: http://www.microchip.com/stellent/groups/techpub_sg/documents/packagingspec/en012702.pdf
footprint DFN-MC8 (SON, 8-Leads, Body 2x3mm, Pitch 0.5mm, Microchip Recommended)
pins: 1 VDD (power), 2 VDD (power), 3 VBAT (power), 4 VBAT (power), 5 STAT (oc), 6 VSS (power), 7 NC, 8 PROG, 9 EP (power)

## MCP73832T-2ATI/OT
designator U?
Miniature Single-Cell, Fully Integrated Li-Ion, Li-Polymer Charge Management Controller, 4.2V, 5-Pin SOT-23, Industrial Temperature, Tape and Reel; Manufacturer: Microchip; PartNumber: MCP73832T-2ATI/OT; DatasheetVersion: revE, Sep-2008; PackageVersion: revBB, Aug-2009; PackageReference: SOT-23-OT5; PackageDescription: 5-Lead Plastic Small Outline Transistor (OT) [SOT-23]; Supplier 1: Digi-Key; Supplier Part Number 1: MCP73832T-2ATI/OTTR-ND; Supplier 2: Digi-Key; Supplier Part Number 2: MCP73832T-2ATI/OTCT-ND; Supplier 3: Digi-Key; Supplier Part Number 3: MCP73832T-2ATI/OTDKR-ND; Supplier 4: Farnell; Supplier Part Number 4: 1834891RL; Supplier 5: Farnell; Supplier Part Number 5: 1834891; Supplier 6: Newark; Supplier Part Number 6: 84R5197; Supplier 7: Mouser; Supplier Part Number 7: 579-MCP73832T-2ATIOT; Mounting Technology: Surface Mount; Code_IPC: SOT23-5; ComponentLink1Description: Manufacturer URL; ComponentLink1URL: http://www.microchip.com/; ComponentLink2Description: Datasheet; ComponentLink2URL: http://ww1.microchip.com/downloads/en/DeviceDoc/21984e.pdf; ComponentLink3Description: Package Specification; ComponentLink3URL: http://www.microchip.com/stellent/groups/techpub_sg/documents/packagingspec/en012702.pdf
footprint SOT-23-OT5_N (SOT23, 5-Leads, Body 2.9x1.6mm, Pitch 0.95mm, Lead Span 2.7mm, IPC Medium Density)
footprint SOT-23-OT5_L (SOT23, 5-Leads, Body 2.9x1.6mm, Pitch 0.95mm, Lead Span 2.7mm, IPC High Density)
footprint SOT-23-OT5_M (SOT23, 5-Leads, Body 2.9x1.6mm, Pitch 0.95mm, Lead Span 2.7mm, IPC Low Density)
pins: 1 STAT (oc), 2 VSS (power), 3 VBAT (power), 4 VDD (power), 5 PROG

## MCP73832T-2DCI/MC
designator U?
Miniature Single-Cell, Fully Integrated Li-Ion, Li-Polymer Charge Management Controller, 4.2V, 8-Pin DFN, Industrial Temperature, Tape and Reel; Manufacturer: Microchip; PartNumber: MCP73832T-2DCI/MC; DatasheetVersion: revE, Sep-2008; PackageVersion: revBB, Aug-2009; PackageReference: DFN-MC8; PackageDescription: 8-Lead Plastic Dual Flat, No Lead Package (MC) - 2x3x0.9mm Body [DFN]; Supplier 1: Digi-Key; Supplier Part Number 1: MCP73832T-2DCI/MC-ND; Supplier 2: Mouser; Supplier Part Number 2: 579-MCP73832T-2DCIMC; Mounting Technology: Surface Mount; ComponentLink1Description: Manufacturer URL; ComponentLink1URL: http://www.microchip.com/; ComponentLink2Description: Datasheet; ComponentLink2URL: http://ww1.microchip.com/downloads/en/DeviceDoc/21984e.pdf; ComponentLink3Description: Package Specification; ComponentLink3URL: http://www.microchip.com/stellent/groups/techpub_sg/documents/packagingspec/en012702.pdf
footprint DFN-MC8 (SON, 8-Leads, Body 2x3mm, Pitch 0.5mm, Microchip Recommended)
pins: 1 VDD (power), 2 VDD (power), 3 VBAT (power), 4 VBAT (power), 5 STAT (oc), 6 VSS (power), 7 NC, 8 PROG, 9 EP (power)

## MCP73832T-2DCI/OT
designator U?
Miniature Single-Cell, Fully Integrated Li-Ion, Li-Polymer Charge Management Controller, 4.2V, 5-Pin SOT-23, Industrial Temperature, Tape and Reel; Manufacturer: Microchip; PartNumber: MCP73832T-2DCI/OT; DatasheetVersion: revE, Sep-2008; PackageVersion: revBB, Aug-2009; PackageReference: SOT-23-OT5; PackageDescription: 5-Lead Plastic Small Outline Transistor (OT) [SOT-23]; Supplier 1: Digi-Key; Supplier Part Number 1: MCP73832T-2DCI/OTTR-ND; Supplier 2: Digi-Key; Supplier Part Number 2: MCP73832T-2DCI/OTCT-ND; Supplier 3: Digi-Key; Supplier Part Number 3: MCP73832T-2DCI/OTDKR-ND; Supplier 4: Farnell; Supplier Part Number 4: 1834892RL; Supplier 5: Farnell; Supplier Part Number 5: 1834892; Supplier 6: Newark; Supplier Part Number 6: 84R5198; Supplier 7: Mouser; Supplier Part Number 7: 579-MCP73832T-2DCIOT; Mounting Technology: Surface Mount; Code_IPC: SOT23-5; ComponentLink1Description: Manufacturer URL; ComponentLink1URL: http://www.microchip.com/; ComponentLink2Description: Datasheet; ComponentLink2URL: http://ww1.microchip.com/downloads/en/DeviceDoc/21984e.pdf; ComponentLink3Description: Package Specification; ComponentLink3URL: http://www.microchip.com/stellent/groups/techpub_sg/documents/packagingspec/en012702.pdf
footprint SOT-23-OT5_N (SOT23, 5-Leads, Body 2.9x1.6mm, Pitch 0.95mm, Lead Span 2.7mm, IPC Medium Density)
footprint SOT-23-OT5_L (SOT23, 5-Leads, Body 2.9x1.6mm, Pitch 0.95mm, Lead Span 2.7mm, IPC High Density)
footprint SOT-23-OT5_M (SOT23, 5-Leads, Body 2.9x1.6mm, Pitch 0.95mm, Lead Span 2.7mm, IPC Low Density)
pins: 1 STAT (oc), 2 VSS (power), 3 VBAT (power), 4 VDD (power), 5 PROG

## MCP73832T-2DFI/OT
designator U?
Miniature Single-Cell, Fully Integrated Li-Ion, Li-Polymer Charge Management Controller, 4.2V, 5-Pin SOT-23, Industrial Temperature, Tape and Reel; Manufacturer: Microchip; PartNumber: MCP73832T-2DFI/OT; DatasheetVersion: revE, Sep-2008; PackageVersion: revBB, Aug-2009; PackageReference: SOT-23-OT5; PackageDescription: 5-Lead Plastic Small Outline Transistor (OT) [SOT-23]; Supplier 1: Digi-Key; Supplier Part Number 1: MCP73832T-2DFI/OTTR-ND; Supplier 2: Digi-Key; Supplier Part Number 2: MCP73832T-2DFI/OTCT-ND; Supplier 3: Digi-Key; Supplier Part Number 3: MCP73832T-2DFI/OTDKR-ND; Supplier 4: Newark; Supplier Part Number 4: 08R1849; Supplier 5: Mouser; Supplier Part Number 5: 579-MCP73832T2DFI/OT; Mounting Technology: Surface Mount; Code_IPC: SOT23-5; ComponentLink1Description: Manufacturer URL; ComponentLink1URL: http://www.microchip.com/; ComponentLink2Description: Datasheet; ComponentLink2URL: http://ww1.microchip.com/downloads/en/DeviceDoc/21984e.pdf; ComponentLink3Description: Package Specification; ComponentLink3URL: http://www.microchip.com/stellent/groups/techpub_sg/documents/packagingspec/en012702.pdf
footprint SOT-23-OT5_N (SOT23, 5-Leads, Body 2.9x1.6mm, Pitch 0.95mm, Lead Span 2.7mm, IPC Medium Density)
footprint SOT-23-OT5_L (SOT23, 5-Leads, Body 2.9x1.6mm, Pitch 0.95mm, Lead Span 2.7mm, IPC High Density)
footprint SOT-23-OT5_M (SOT23, 5-Leads, Body 2.9x1.6mm, Pitch 0.95mm, Lead Span 2.7mm, IPC Low Density)
pins: 1 STAT (oc), 2 VSS (power), 3 VBAT (power), 4 VDD (power), 5 PROG

## MCP73832T-3ACI/MC
designator U?
Miniature Single-Cell, Fully Integrated Li-Ion, Li-Polymer Charge Management Controller, 4.35V, 8-Pin DFN, Industrial Temperature, Tape and Reel; Manufacturer: Microchip; PartNumber: MCP73832T-3ACI/MC; DatasheetVersion: revE, Sep-2008; PackageVersion: revBB, Aug-2009; PackageReference: DFN-MC8; PackageDescription: 8-Lead Plastic Dual Flat, No Lead Package (MC) - 2x3x0.9mm Body [DFN]; Supplier 1: Digi-Key; Supplier Part Number 1: MCP73832T-3ACI/MC-ND; Supplier 2: Mouser; Supplier Part Number 2: 579-MCP73832T-3ACIMC; Mounting Technology: Surface Mount; ComponentLink1Description: Manufacturer URL; ComponentLink1URL: http://www.microchip.com/; ComponentLink2Description: Datasheet; ComponentLink2URL: http://ww1.microchip.com/downloads/en/DeviceDoc/21984e.pdf; ComponentLink3Description: Package Specification; ComponentLink3URL: http://www.microchip.com/stellent/groups/techpub_sg/documents/packagingspec/en012702.pdf
footprint DFN-MC8 (SON, 8-Leads, Body 2x3mm, Pitch 0.5mm, Microchip Recommended)
pins: 1 VDD (power), 2 VDD (power), 3 VBAT (power), 4 VBAT (power), 5 STAT (oc), 6 VSS (power), 7 NC, 8 PROG, 9 EP (power)

## MCP73832T-3ACI/OT
designator U?
Miniature Single-Cell, Fully Integrated Li-Ion, Li-Polymer Charge Management Controller, 4.35V, 5-Pin SOT-23, Industrial Temperature, Tape and Reel; Manufacturer: Microchip; PartNumber: MCP73832T-3ACI/OT; DatasheetVersion: revE, Sep-2008; PackageVersion: revBB, Aug-2009; PackageReference: SOT-23-OT5; PackageDescription: 5-Lead Plastic Small Outline Transistor (OT) [SOT-23]; Supplier 1: Digi-Key; Supplier Part Number 1: MCP73832T-3ACI/OT-ND; Supplier 2: Mouser; Supplier Part Number 2: 579-MCP73832T-3ACIOT; Mounting Technology: Surface Mount; Code_IPC: SOT23-5; ComponentLink1Description: Manufacturer URL; ComponentLink1URL: http://www.microchip.com/; ComponentLink2Description: Datasheet; ComponentLink2URL: http://ww1.microchip.com/downloads/en/DeviceDoc/21984e.pdf; ComponentLink3Description: Package Specification; ComponentLink3URL: http://www.microchip.com/stellent/groups/techpub_sg/documents/packagingspec/en012702.pdf
footprint SOT-23-OT5_N (SOT23, 5-Leads, Body 2.9x1.6mm, Pitch 0.95mm, Lead Span 2.7mm, IPC Medium Density)
footprint SOT-23-OT5_L (SOT23, 5-Leads, Body 2.9x1.6mm, Pitch 0.95mm, Lead Span 2.7mm, IPC High Density)
footprint SOT-23-OT5_M (SOT23, 5-Leads, Body 2.9x1.6mm, Pitch 0.95mm, Lead Span 2.7mm, IPC Low Density)
pins: 1 STAT (oc), 2 VSS (power), 3 VBAT (power), 4 VDD (power), 5 PROG

## MCP73833-6SI/MF
designator U?
Stand-Alone Linear Li-Ion/Li-Polymer Charge Management Controller with Power-Good Output, 4.2V, 10-Pin DFN, Industrial Temperature; Manufacturer: Microchip; PartNumber: MCP73833-6SI/MF; DatasheetVersion: revB, May-2009; PackageVersion: revBB, Aug-2009; PackageReference: DFN-MF10; PackageDescription: 10-Lead Plastic Dual Flat, No Lead Package (MF) - 3x3x0.9mm Body [DFN]; Mounting Technology: Surface Mount; ComponentLink1Description: Manufacturer URL; ComponentLink1URL: http://www.microchip.com/; ComponentLink2Description: Datasheet; ComponentLink2URL: http://ww1.microchip.com/downloads/en/DeviceDoc/22005b.pdf; ComponentLink3Description: Package Specification; ComponentLink3URL: http://www.microchip.com/stellent/groups/techpub_sg/documents/packagingspec/en012702.pdf
footprint DFN-MF10 (SON, 10-Leads, Body 3x3mm, Pitch 0.5mm, Microchip Recommended)
pins: 1 VDD (power), 2 VDD (power), 3 STAT1 (oc), 4 STAT2 (oc), 5 VSS (power), 6 PROG (in), 7 ~{PG} (oc), 8 THERM (in), 9 VBAT (power), 10 VBAT (power), 11 EP (power)

## MCP73833-6SI/UN
designator U?
Stand-Alone Linear Li-Ion/Li-Polymer Charge Management Controller with Power-Good Output, 4.2V, 10-Pin MSOP, Industrial Temperature; Manufacturer: Microchip; PartNumber: MCP73833-6SI/UN; DatasheetVersion: revB, May-2009; PackageVersion: revBB, Aug-2009; PackageReference: MSOP-UN10; PackageDescription: 10-Lead Plastic Micro Small Outline Package (UN) [MSOP]; Mounting Technology: Surface Mount; ComponentLink1Description: Manufacturer URL; ComponentLink1URL: http://www.microchip.com/; ComponentLink2Description: Datasheet; ComponentLink2URL: http://ww1.microchip.com/downloads/en/DeviceDoc/22005b.pdf; ComponentLink3Description: Package Specification; ComponentLink3URL: http://www.microchip.com/stellent/groups/techpub_sg/documents/packagingspec/en012702.pdf
footprint MSOP-UN10_N (TSSOP, 10-Leads, Body 3x3mm, Pitch 0.5mm, IPC Medium Density)
footprint MSOP-UN10_L (TSSOP, 10-Leads, Body 3x3mm, Pitch 0.5mm, IPC High Density)
footprint MSOP-UN10_M (TSSOP, 10-Leads, Body 3x3mm, Pitch 0.5mm, IPC Low Density)
pins: 1 VDD (power), 2 VDD (power), 3 STAT1 (oc), 4 STAT2 (oc), 5 VSS (power), 6 PROG (in), 7 ~{PG} (oc), 8 THERM (in), 9 VBAT (power), 10 VBAT (power)

## MCP73833-AMI/MF
designator U?
Stand-Alone Linear Li-Ion/Li-Polymer Charge Management Controller with Power-Good Output, 4.2V, 10-Pin DFN, Industrial Temperature; Manufacturer: Microchip; PartNumber: MCP73833-AMI/MF; DatasheetVersion: revB, May-2009; PackageVersion: revBB, Aug-2009; PackageReference: DFN-MF10; PackageDescription: 10-Lead Plastic Dual Flat, No Lead Package (MF) - 3x3x0.9mm Body [DFN]; Supplier 1: Digi-Key; Supplier Part Number 1: MCP73833-AMI/MF-ND; Supplier 2: Newark; Supplier Part Number 2: 88K5663; Supplier 3: Mouser; Supplier Part Number 3: 579-MCP73833-AMI/MF; Mounting Technology: Surface Mount; ComponentLink1Description: Manufacturer URL; ComponentLink1URL: http://www.microchip.com/; ComponentLink2Description: Datasheet; ComponentLink2URL: http://ww1.microchip.com/downloads/en/DeviceDoc/22005b.pdf; ComponentLink3Description: Package Specification; ComponentLink3URL: http://www.microchip.com/stellent/groups/techpub_sg/documents/packagingspec/en012702.pdf
footprint DFN-MF10 (SON, 10-Leads, Body 3x3mm, Pitch 0.5mm, Microchip Recommended)
pins: 1 VDD (power), 2 VDD (power), 3 STAT1 (oc), 4 STAT2 (oc), 5 VSS (power), 6 PROG (in), 7 ~{PG} (oc), 8 THERM (in), 9 VBAT (power), 10 VBAT (power), 11 EP (power)